# Altium footprint library Mux_PI3USB221AZWEX.PcbLib: 1 footprints
Each footprint in its own frame and in the unit in brackets; x right, y up, seen from the top. Pads: shape width x height; smd on the part's side, far side on the other; paste and mask are expansions set on the pad; w line width, h text height; cw(c..) or ccw(c..) is an arc to the next point about the centre after c.
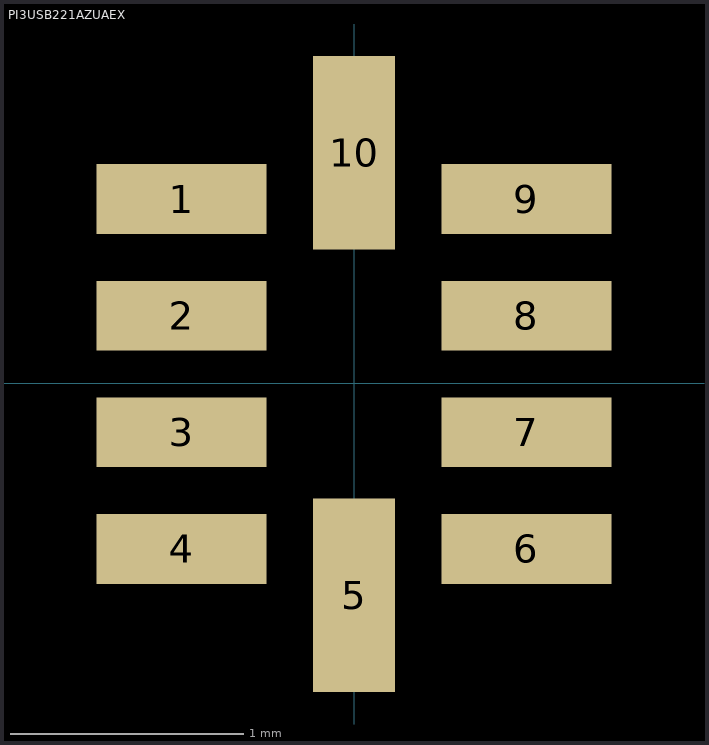
[diagram p0: the footprint, top view; thin cyan lines are the x and y axes]

## PI3USB221AZUAEX [mm] "PI3USB221AZUAEX UQFN"
pads (10):
  rect 0.73x0.3 smd: 1(-0.74,0.789) 2(-0.74,0.289) 3(-0.74,-0.211) 4(-0.74,-0.711) 6(0.74,-0.711) 7(0.74,-0.211) 8(0.74,0.289) 9(0.74,0.789)
  rect 0.35x0.83 smd: 5(0,-0.911) 10(0,0.989)
3D body: height 0.65, standoff 0.02, extent -0.767,-0.989 0.757,1.043